# Altium schematic symbol library CTDO1813PF-223HC.SchLib: 2 symbols
Pins are listed as number, name and electrical type; pins without a type are passive.

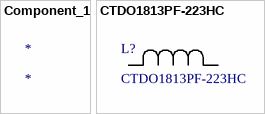
[diagram p0: symbols Component_1 to CTDO1813PF-223HC]

## Component_1
designator *

## CTDO1813PF-223HC
designator L?
No Description Available; Mfr_Name: Central Technologies; Type: DEV; Copyright: Copyright (C) 2023 Ultra Librarian. All rights reserved.; Manufacturer_Part_Number: CTDO1813PF-223HC; RefDes: RefDes
footprint IND_CTDO1813PF-223HC_CTH
pins: 1, 2